# Altium footprint library RayPCB20210502.PcbLib: 222 footprints (part 11 of 14)
Each footprint in its own frame and in the unit in brackets; x right, y up, seen from the top. Pads: shape width x height; smd on the part's side, far side on the other; paste and mask are expansions set on the pad; w line width, h text height; cw(c..) or ccw(c..) is an arc to the next point about the centre after c.
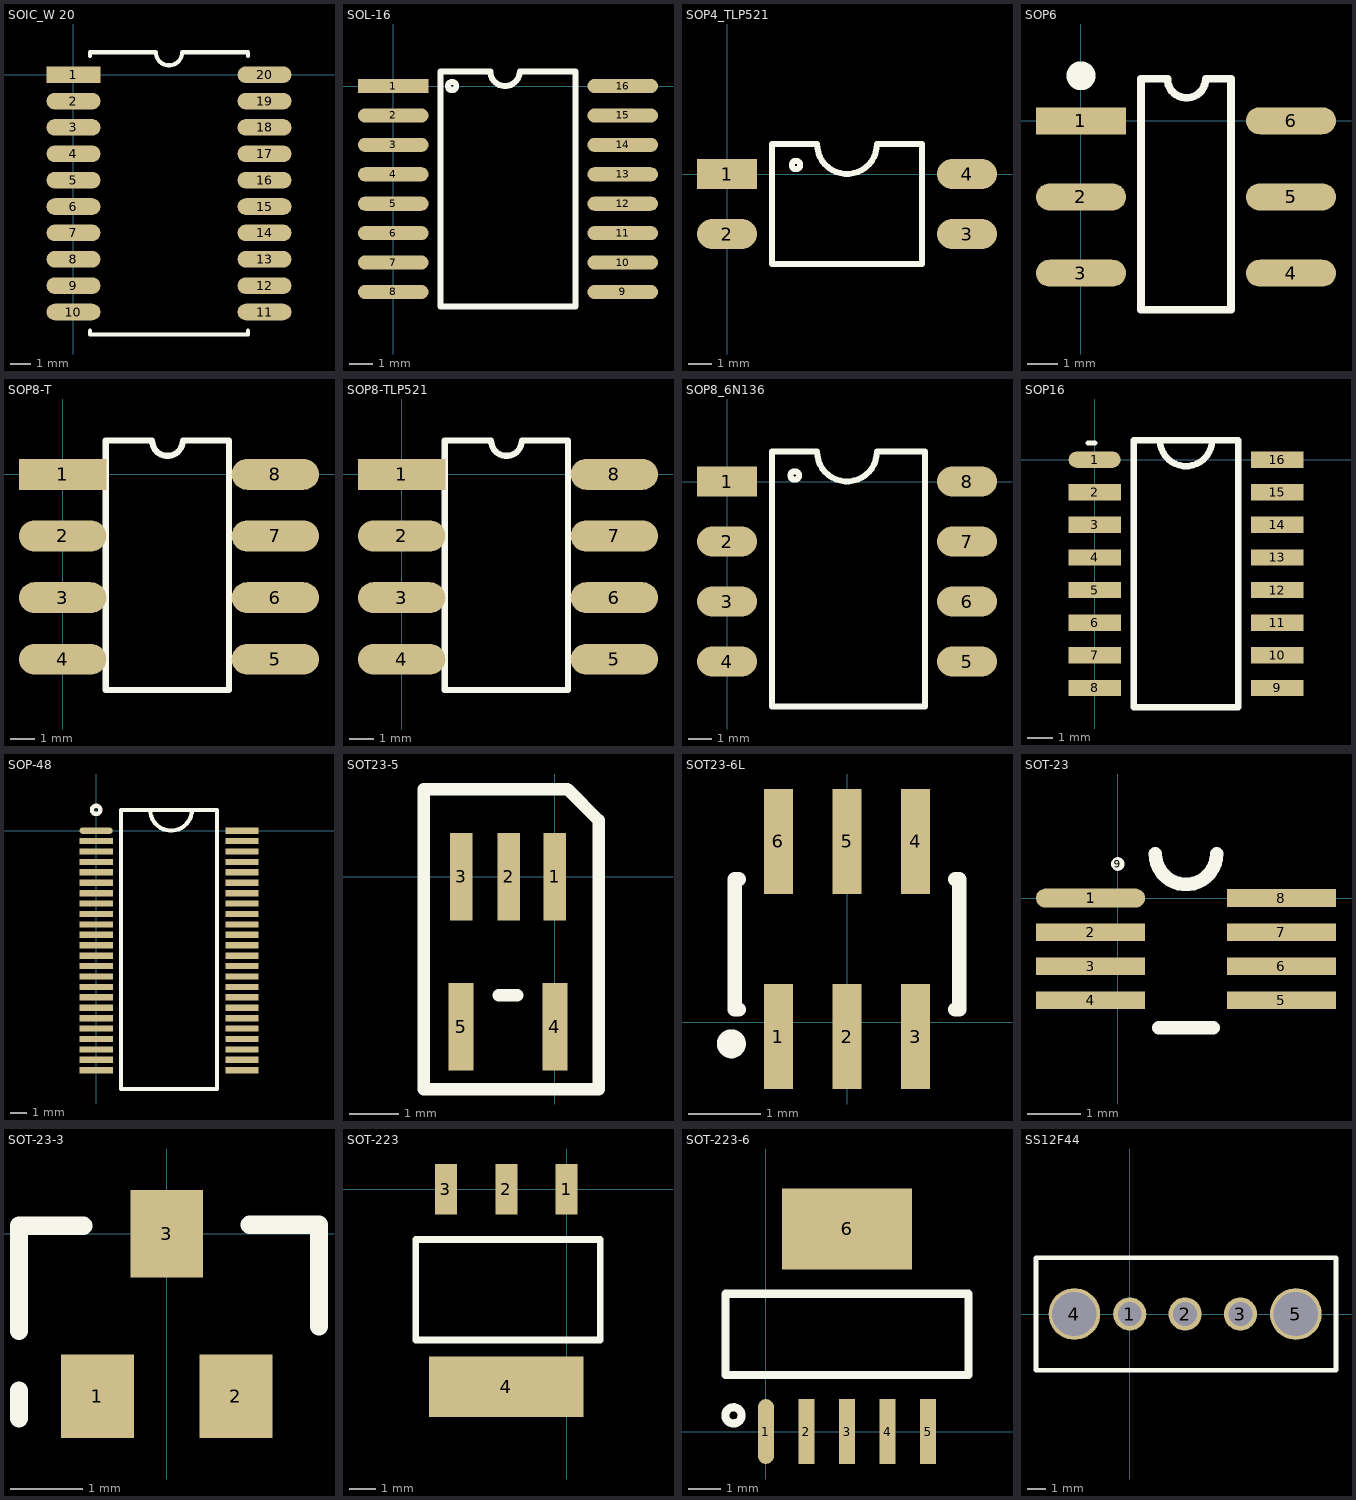
[diagram p10: the footprints below, top view; thin cyan lines are the x and y axes]

## SOIC_W 20 [mm] "DRV8803DW"
pads (20):
  rect 2.6x0.8 smd: 1(0,0)
  oval 2.6x0.8 smd: 2(0,-1.27) 3(0,-2.54) 4(0,-3.81) 5(0,-5.08) 6(0,-6.35) 7(0,-7.62) 8(0,-8.89) 9(0,-10.16) 10(0,-11.43) 11(9.2,-11.43) 12(9.2,-10.16) 13(9.2,-8.89) 14(9.2,-7.62) 15(9.2,-6.35) 16(9.2,-5.08) 17(9.2,-3.81) 18(9.2,-2.54) 19(9.2,-1.27) 20(9.2,0)
Top Overlay:
  lines w0.2: 0.8,-12.33 0.8,-12.515 8.4,-12.515 8.4,-12.33 ; 0.8,0.9 0.8,1.085 3.965,1.085 ccw(c4.6,1.085) 5.235,1.085 8.4,1.085 8.4,0.9

## SOL-16 [mil] "ADUM1300"
pads (16):
  rect 120x24 smd: 1(0,0)
  oval 120x24 smd: 2(0,-50) 3(0,-100) 4(0,-150) 5(0,-200) 6(0,-250) 7(0,-300) 8(0,-350) 9(390,-350) 10(390,-300) 11(390,-250) 12(390,-200) 13(390,-150) 14(390,-100) 15(390,-50) 16(390,0)
Top Overlay:
  circle w10: c100,0 r7.07
  lines w10: 80,-375 80,25 165,25 ccw(c190,25) 215,25 310,25 310,-375 80,-375

## SOP4_TLP521 [mil]
pads (4):
  rect 100x50 smd: 1(0,0)
  oval 100x50 smd: 2(0,-100) 3(400,-100) 4(400,0)
Top Overlay:
  circle w10: c115,15 r7.07
  lines w10: 75,-150 325,-150 325,50 250,50 cw(c200,50) 150,50 75,50 75,-150

## SOP6 [mm]
pads (6):
  rect 3x0.9 smd: 1(0,0)
  oval 3x0.9 smd: 2(0,-2.54) 3(0,-5.08) 4(7,-5.08) 5(7,-2.54) 6(7,0)
Top Overlay:
  circle w0.762: c0,1.5 r0.1
  lines w0.254: 2,-6.3 2,1.397 2.883,1.397 ccw(c3.518,1.397) 4.153,1.397 5,1.397 5,-6.3 2,-6.3

## SOP8-T [mm] "6N136"
pads (8):
  rect 3.6x1.27 smd: 1(0,0)
  oval 3.6x1.27 smd: 2(0,-2.54) 3(0,-5.08) 4(0,-7.62) 5(8.763,-7.62) 6(8.763,-5.08) 7(8.763,-2.54) 8(8.763,0)
Top Overlay:
  lines w0.254: 1.778,-8.89 1.778,1.397 3.683,1.397 ccw(c4.318,1.397) 4.953,1.397 6.858,1.397 6.858,-8.89 1.778,-8.89

## SOP8-TLP521 [mm] "TLP521-4"
pads (8):
  rect 3.6x1.27 smd: 1(0,0)
  oval 3.6x1.27 smd: 2(0,-2.54) 3(0,-5.08) 4(0,-7.62) 5(8.763,-7.62) 6(8.763,-5.08) 7(8.763,-2.54) 8(8.763,0)
Top Overlay:
  lines w0.254: 1.778,-8.89 1.778,1.397 3.683,1.397 ccw(c4.318,1.397) 4.953,1.397 6.858,1.397 6.858,-8.89 1.778,-8.89

## SOP8_6N136 [mil]
pads (8):
  rect 100x50 smd: 1(0,0)
  oval 100x50 smd: 2(0,-100) 3(0,-200) 4(0,-300) 5(400,-300) 6(400,-200) 7(400,-100) 8(400,0)
Top Overlay:
  circle w10: c112.93,10 r7.07
  lines w10: 75,-375 75,50 150,50 ccw(c200,50) 250,50 330,50 330,-375 75,-375

## SOP16 [mil]
pads (16):
  oval 80x25 smd: 1(0,0)
  rect 80x25 smd: 2(0,-50) 3(0,-100) 4(0,-150) 5(0,-200) 6(0,-250) 7(0,-300) 8(0,-350) 9(280,-350) 10(280,-300) 11(280,-250) 12(280,-200) 13(280,-150) 14(280,-100) 15(280,-50) 16(280,0)
Top Overlay:
  lines w8: -10.24,25.59 0,25.59
  lines w10: 100,30 ccw(c140,30) 180,30 ; 60,-380 60,30 220,30 220,-380 60,-380

## SOP-48 [mil]
pads (48):
  oval 80x15 smd: 1(0,0)
  rect 80x15 smd: 2(0,-25) 3(0,-50) 4(0,-75) 5(0,-100) 6(0,-125) 7(0,-150) 8(0,-175) 9(0,-200) 10(0,-225) 11(0,-250) 12(0,-275) 13(0,-300) 14(0,-325) 15(0,-350) 16(0,-375) 17(0,-400) 18(0,-425) 19(0,-450) 20(0,-475) 21(0,-500) 22(0,-525) 23(0,-550) 24(0,-575) 25(350,-575) 26(350,-550) 27(350,-525) 28(350,-500) 29(350,-475) 30(350,-450) 31(350,-425) 32(350,-400) 33(350,-375) 34(350,-350) 35(350,-325) 36(350,-300) 37(350,-275) 38(350,-250) 39(350,-225) 40(350,-200) 41(350,-175) 42(350,-150) 43(350,-125) 44(350,-100) 45(350,-75) 46(350,-50) 47(350,-25) 48(350,0)
Top Overlay:
  circle w10: c0,50 r10
  lines w10: 130,50 ccw(c180,50) 230,50 ; 60,-620 290,-620 290,50 60,50 60,-620

## SOT23-5 [mil]
pads (5):
  rect 18x70 smd: 1(0,0) 2(-37,0) 3(-75,0)
  rect 20x70 smd: 4(0,-120) 5(-75,-120)
Top Overlay:
  lines w10: -45,-95 -30,-95 ; -105,-170 35,-170 35,-150 35,45 10,70 -105,70 -105,25 -105,-170

## SOT23-6L [mm]
pads (6):
  rect 0.4x1.45 smd: 1(-0.95,-0.2) 2(0,-0.2) 3(0.95,-0.2) 4(0.95,2.5) 5(0,2.5) 6(-0.95,2.5)
Top Overlay:
  circle w0.3: c-1.6,-0.3 r0.05
  lines w0.2: -1.5,0.175 -1.55,0.175 -1.55,1.975 -1.5,1.975 ; 1.5,0.175 1.55,0.175 1.55,1.975 1.5,1.975

## SOT-23 [mil] "8Pin small SOP  -AD5620"
pads (9):
  oval 80x14 smd: 1(-20,0)
  rect 80x13 smd: 2(-20,-25) 3(-20,-50) 4(-20,-75) 5(120,-75) 6(120,-50) 7(120,-25) 8(120,0)
  round 10 on Top Overlay: 9(0,25)
Top Overlay:
  lines w10: 27.5,32.5 ccw(c50,32.5) 72.5,32.5 ; 30,-95 70,-95

## SOT-23-3 [mil]
pads (3):
  rect 39.37x45 smd: 1(-37.5,-88) 2(37.5,-88)
  rect 39.37x47.24 smd: 3(0,0)
Top Overlay:
  lines w10: -80,-100 -80,-85 ; -80,-52.5 -80,4.43 -45.25,4.43 ; 45,5 82.5,5 82.5,-50

## SOT-223 [mil]
pads (4):
  rect 33x75 smd: 1(0,0) 2(-90,0) 3(-180,0)
  rect 230x90 smd: 4(-90,-295)
Top Overlay:
  lines w10: -225,-225 -225,-75 50,-75 50,-225 -225,-225

## SOT-223-6 [mil] "6pin"
pads (6):
  oval 20x80 smd: 1(0,0)
  rect 20x80 smd: 2(50,0) 3(100,0) 4(150,0) 5(200,0)
  rect 160x100 smd: 6(100,250)
Top Overlay:
  circle w10: c-40,20 r10
  lines w10: -50,70 250,70 250,170 -50,170 -50,70

## SS12F44 [mm]
pads (5):
  round 1.8 hole 1.3: 1(0,0) 2(3,0) 3(6,0)
  round 2.8 hole 2.4: 4(-3,0) 5(9,0)
Top Overlay:
  lines w0.254: -5.08,-3.048 11.176,-3.048 11.176,3.048 -5.08,3.048 -5.08,-3.048